# EAGLE library part CD4504BPWR (library CD4504BPWR)
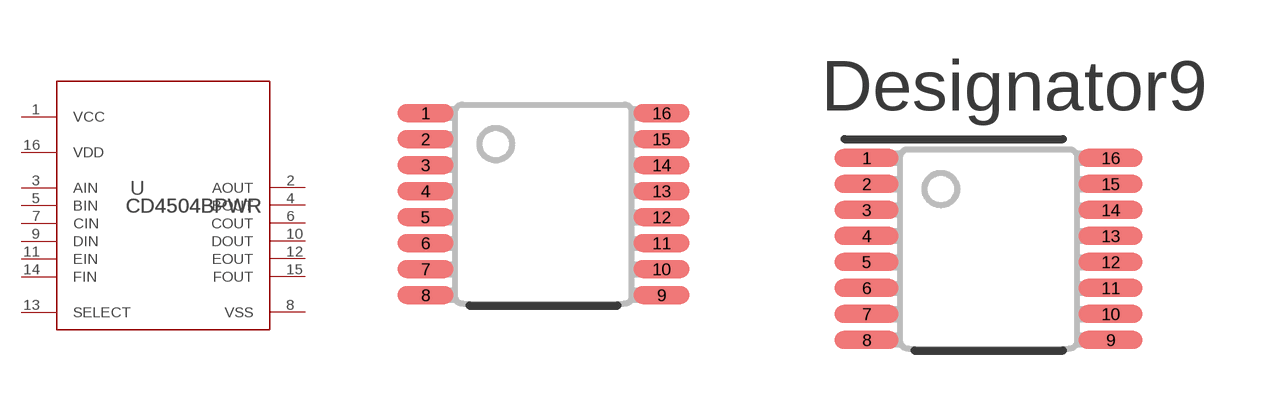
[diagram p0: symbol with the pads of PW0016A_N; footprints PW0016A_N, PW0016A_M]

Designator prefix U

## CD4504BPWR (COPYRIGHT: Copyright (C) 2021 Ultra Librarian. All rights reserved.; DIGI-KEY_PART_NUMBER_1: 296-12010-1-ND; DIGI-KEY_PART_NUMBER_2: 296-12010-2-ND; DIGI-KEY_PART_NUMBER_3: 296-12010-6-ND; MANUFACTURER_PART_NUMBER: CD4504BPWR; MFR_NAME: Texas Instruments; REFDES: RefDes; TYPE: TYPE)  [PW0016A_N]
1  VCC  pwr
2  AOUT  out
3  AIN  in
4  BOUT  out
5  BIN  in
6  COUT  out
7  CIN  in
8  VSS  pwr
9  DIN  in
10  DOUT  out
11  EIN  in
12  EOUT  out
13  SELECT  in
14  FIN  in
15  FOUT  out
16  VDD  pwr

## CD4504BPWRPW0016A_M (COPYRIGHT: Copyright (C) 2021 Ultra Librarian. All rights reserved.; DIGI-KEY_PART_NUMBER_1: 296-12010-1-ND; DIGI-KEY_PART_NUMBER_2: 296-12010-2-ND; DIGI-KEY_PART_NUMBER_3: 296-12010-6-ND; MANUFACTURER_PART_NUMBER: CD4504BPWR; MFR_NAME: Texas Instruments; REFDES: RefDes; TYPE: TYPE)  [PW0016A_M]
Pads as for PW0016A_N

## CD4504BPWRPW0016A_L (COPYRIGHT: Copyright (C) 2021 Ultra Librarian. All rights reserved.; DIGI-KEY_PART_NUMBER_1: 296-12010-1-ND; DIGI-KEY_PART_NUMBER_2: 296-12010-2-ND; DIGI-KEY_PART_NUMBER_3: 296-12010-6-ND; MANUFACTURER_PART_NUMBER: CD4504BPWR; MFR_NAME: Texas Instruments; REFDES: RefDes; TYPE: TYPE)  [PW0016A_L]
Pads as for PW0016A_N

## Footprint PW0016A_N (pad centres in mm)
smd 1.4 x 0.45: 1 -2.95,2.275; 2 -2.95,1.625; 3 -2.95,0.975; 4 -2.95,0.325; 5 -2.95,-0.325; 6 -2.95,-0.975; 7 -2.95,-1.625; 8 -2.95,-2.275; 9 2.95,-2.275; 10 2.95,-1.625; 11 2.95,-0.975; 12 2.95,-0.325; 13 2.95,0.325; 14 2.95,0.975; 15 2.95,1.625; 16 2.95,2.275

## Footprint PW0016A_M (pad centres in mm)
smd 1.6 x 0.45: 1 -3.05,2.275; 2 -3.05,1.625; 3 -3.05,0.975; 4 -3.05,0.325; 5 -3.05,-0.325; 6 -3.05,-0.975; 7 -3.05,-1.625; 8 -3.05,-2.275; 9 3.05,-2.275; 10 3.05,-1.625; 11 3.05,-0.975; 12 3.05,-0.325; 13 3.05,0.325; 14 3.05,0.975; 15 3.05,1.625; 16 3.05,2.275

## Footprint PW0016A_L (pad centres in mm)
smd 1.2 x 0.4: 1 -2.85,2.275; 2 -2.85,1.625; 3 -2.85,0.975; 4 -2.85,0.325; 5 -2.85,-0.325; 6 -2.85,-0.975; 7 -2.85,-1.625; 8 -2.85,-2.275; 9 2.85,-2.275; 10 2.85,-1.625; 11 2.85,-0.975; 12 2.85,-0.325; 13 2.85,0.325; 14 2.85,0.975; 15 2.85,1.625; 16 2.85,2.275